# Altium footprint library Main_Schem.PcbLib: 1 footprints
Each footprint in its own frame and in the unit in brackets; x right, y up, seen from the top. Pads: shape width x height; smd on the part's side, far side on the other; paste and mask are expansions set on the pad; w line width, h text height; cw(c..) or ccw(c..) is an arc to the next point about the centre after c.
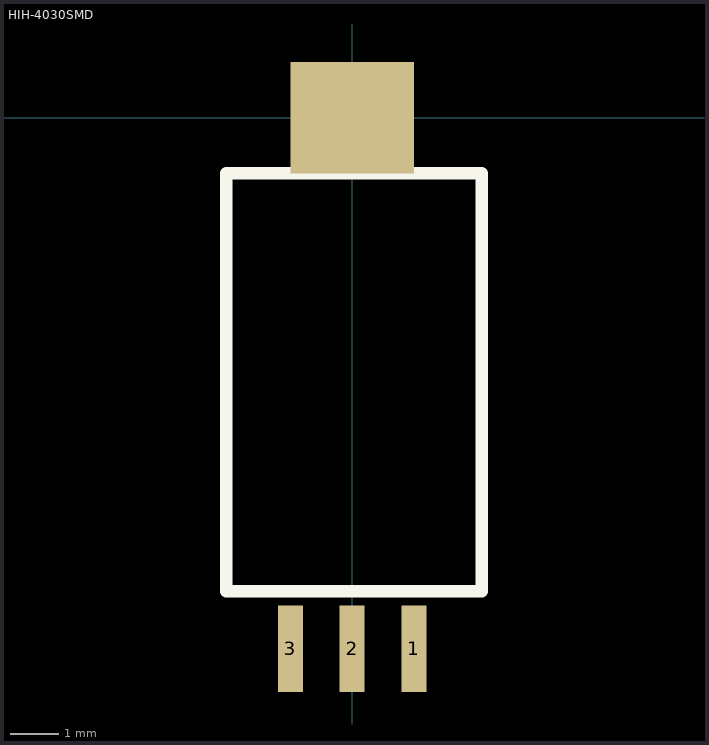
[diagram p0: the footprint, top view; thin cyan lines are the x and y axes]

## HIH-4030SMD [mm]
pads (4):
  rect 0.51x1.78 smd: 1(1.27,-10.925) 2(0,-10.925) 3(-1.27,-10.925)
  rect 2.54x2.29 smd: ""(0,0)
Top Overlay:
  lines w0.254: 2.59,-1.143 -2.59,-1.143 -2.59,-9.743 2.667,-9.743 2.667,-1.143